# Altium integrated library MCP23S08-E_SO.IntLib: 1 symbol
Pins are listed as number, name and electrical type; pins without a type are passive.

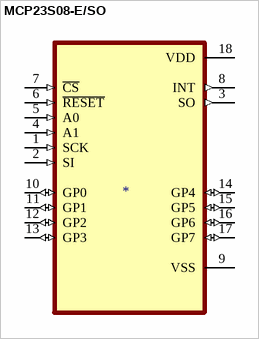
[diagram p0: symbol MCP23S08-E/SO]

## MCP23S08-E/SO
designator ?
I/O Expander 8 SPI 10MHz 18-SOIC; MP: MCP23S08-E/SO; MF: Microchip; Price: None; SnapEDA_Link: https://www.snapeda.com/parts/MCP23S08-E/SO/Microchip/view-part/380617/?ref=snap; Availability: Unavailable; Value: *; Package: SOIC-18 Microchip
footprint SOIC127P1030X265-18N
pins: 1 SCK (in), 2 SI (in), 3 SO (out), 4 A1 (in), 5 A0 (in), 6 ~{RESET} (in), 7 ~{CS} (in), 8 INT (out), 9 VSS (power), 10 GP0 (io), 11 GP1 (io), 12 GP2 (io), 13 GP3 (io), 14 GP4 (io), 15 GP5 (io), 16 GP6 (io), 17 GP7 (io), 18 VDD (power)